# EAGLE library part SSM2305RMZ-R2 (library FSAE Electric (Alexander Ray's conflicted copy 2016-04-02))
IC AMP AUDIO 2.8W MONO D
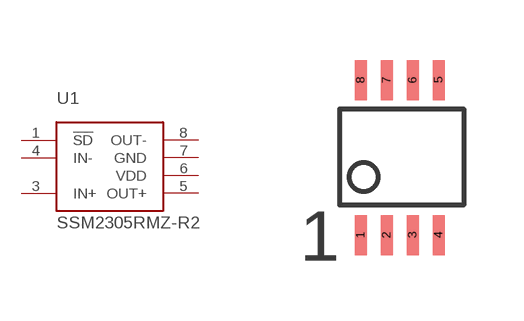
[diagram p93: symbol with the pads of MSOP-8; footprint MSOP-8]

Designator prefix U1

## SSM2305RMZ-R2  [MSOP-8]
1  !SD
3  IN+
4  IN-
5  OUT+
6  VDD
7  GND
8  OUT-

## Footprint MSOP-8 (pad centres in mm)
smd 0.3 x 1: 1 -0.975,-1.95; 2 -0.325,-1.95; 3 0.325,-1.95; 4 0.975,-1.95; 5 0.975,1.925; 6 0.325,1.925; 7 -0.325,1.925; 8 -0.975,1.925